# Altium footprint library Telit.PcbLib: 1 footprints
Each footprint in its own frame and in the unit in brackets; x right, y up, seen from the top. Pads: shape width x height; smd on the part's side, far side on the other; paste and mask are expansions set on the pad; w line width, h text height; cw(c..) or ccw(c..) is an arc to the next point about the centre after c.
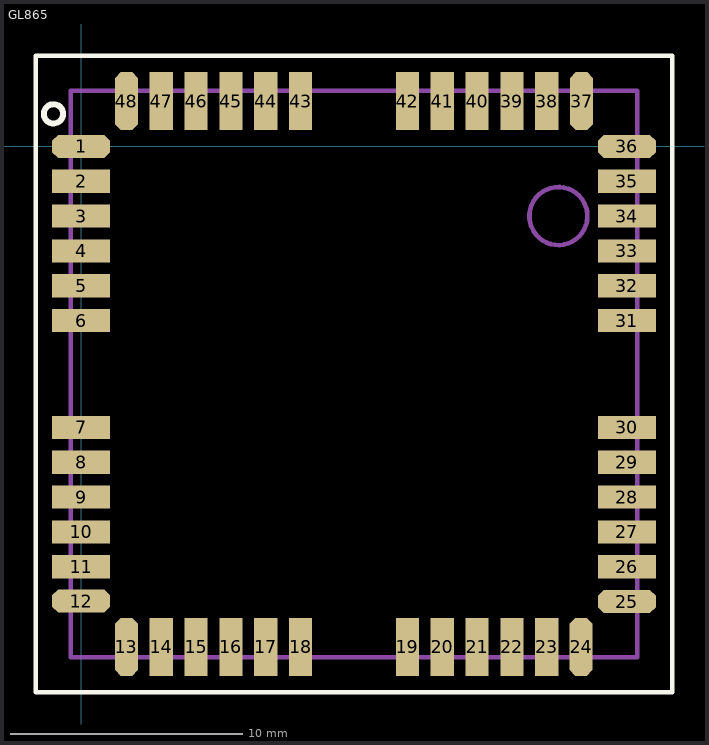
[diagram p0: the footprint, top view; thin cyan lines are the x and y axes]

## GL865 [mm]
pads (48):
  oct 2.5x1 smd: 1(0,0) 12(0,-19.575) 25(23.5,-19.6) 36(23.5,0)
  rect 2.5x1 smd: 2(0,-1.5) 3(0,-3) 4(0,-4.5) 5(0,-6) 6(0,-7.5) 7(0,-12.1) 8(0,-13.6) 9(0,-15.1) 10(0,-16.6) 11(0,-18.1) 26(23.5,-18.1) 27(23.5,-16.6) 28(23.5,-15.1) 29(23.5,-13.6) 30(23.5,-12.1) 31(23.5,-7.5) 32(23.5,-6) 33(23.5,-4.5) 34(23.5,-3) 35(23.5,-1.5)
  oct 1x2.5 smd: 13(1.95,-21.55) 24(21.525,-21.55) 37(21.55,1.95) 48(1.95,1.95)
  rect 1x2.5 smd: 14(3.45,-21.55) 15(4.95,-21.55) 16(6.45,-21.55) 17(7.95,-21.55) 18(9.45,-21.55) 19(14.05,-21.55) 20(15.55,-21.55) 21(17.05,-21.55) 22(18.55,-21.55) 23(20.05,-21.55) 38(20.05,1.95) 39(18.55,1.95) 40(17.05,1.95) 41(15.55,1.95) 42(14.05,1.95) 43(9.45,1.95) 44(7.95,1.95) 45(6.45,1.95) 46(4.95,1.95) 47(3.45,1.95)
Top Overlay:
  circle w0.254: c-1.189,1.4 r0.414
  lines w0.2: -1.95,-23.5 25.45,-23.5 25.45,3.9 -1.95,3.9 -1.95,-23.5
Mechanical 1:
  circle w0.2: c20.55,-3 r1.25
  lines w0.2: -0.45,-22 23.95,-22 23.95,2.4 -0.45,2.4 -0.45,-22
3D body: height 2.7, standoff -0.01, extent -0.435,-21.985 23.985,2.435